# Altium schematic symbol library LM8261 OAMP.Schlib: 1 symbol
Pins are listed as number, name and electrical type; pins without a type are passive.

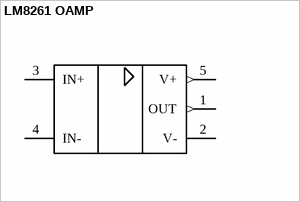
[diagram p0: symbol LM8261 OAMP]

## LM8261 OAMP
designator DD?
Driver
pins: 1 OUT (out), 2 V- (power), 3 IN+ (power), 4 IN- (power), 5 V+ (out)